# EAGLE library part PIC16F876-20/SP (library PIC16F876)
Flash Microcontrollers
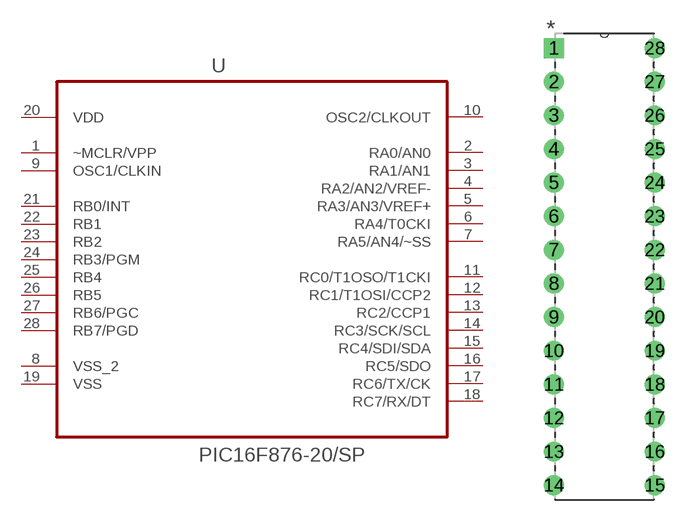
[diagram p0: symbol with the pads of DIP254P762X406-28; footprint DIP254P762X406-28]

Designator prefix -

## PIC16F876-20/SP (MPN: PIC16F876-20/SP; OC_FARNELL: 1523959; OC_NEWARK: 12C1951; PACKAGE: DIP-28; SUPPLIER: Microchip)  [DIP254P762X406-28]
1  ~MCLR/VPP  in
2  RA0/AN0
3  RA1/AN1
4  RA2/AN2/VREF-
5  RA3/AN3/VREF+
6  RA4/T0CKI
7  RA5/AN4/~SS
8  VSS_2  pwr
9  OSC1/CLKIN  in
10  OSC2/CLKOUT  out
11  RC0/T1OSO/T1CKI
12  RC1/T1OSI/CCP2
13  RC2/CCP1
14  RC3/SCK/SCL
15  RC4/SDI/SDA
16  RC5/SDO
17  RC6/TX/CK
18  RC7/RX/DT
19  VSS  pwr
20  VDD  pwr
21  RB0/INT
22  RB1
23  RB2
24  RB3/PGM
25  RB4
26  RB5
27  RB6/PGC
28  RB7/PGD

## Footprint DIP254P762X406-28 (pad centres in mm)
drill 0.991 square: 1 -7.62,33.02
drill 0.991: 2 -7.62,30.48; 3 -7.62,27.94; 4 -7.62,25.4; 5 -7.62,22.86; 6 -7.62,20.32; 7 -7.62,17.78; 8 -7.62,15.24; 9 -7.62,12.7; 10 -7.62,10.16; 11 -7.62,7.62; 12 -7.62,5.08; 13 -7.62,2.54; 14 -7.62,0; 15 0,0; 16 0,2.54; 17 0,5.08; 18 0,7.62; 19 0,10.16; 20 0,12.7; 21 0,15.24; 22 0,17.78; 23 0,20.32; 24 0,22.86; 25 0,25.4; 26 0,27.94; 27 0,30.48; 28 0,33.02